# EAGLE library part AS3935 (library SparkFun-Sensors)
AS3935 Franklin Lightning Sensor The AS3935 is a programmable fully integrated Lightning Sensor IC that detects the presence and approach of potentially hazardous lightning activity in the vicinity and provides an estimation on the distance to the head of the storm. The embedded lightning algorithm checks the incoming signal pattern to reject the potential man-made disturbers.The AS3935 can also provide information on the noise level and inform the external unit (e.g. microcontroller) in case of high noise conditions, with the noise floor generator and noise floor evaluation blocks.
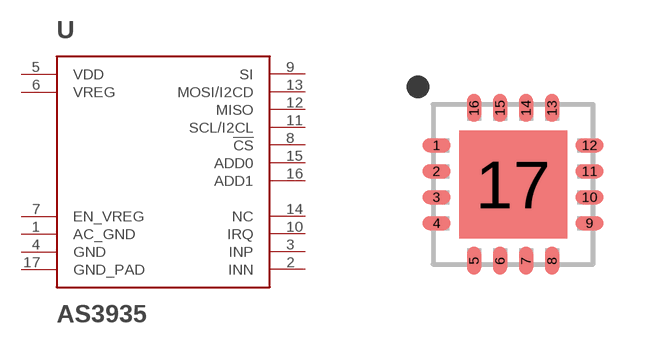
[diagram p51: symbol with the pads of 16LD_MLPQ; footprint 16LD_MLPQ]

Designator prefix U

## AS3935QFN (PROD_ID: IC-11333; VALUE: AS3935)  [16LD_MLPQ]
1  AC_GND  pwr
2  INN
3  INP
4  GND  pwr
5  VDD  pwr
6  VREG  pwr
7  EN_VREG
8  !CS  in
9  SI  in
10  IRQ
11  SCL/I2CL  in
12  MISO  out
13  MOSI/I2CD  in
14  NC  nc
15  ADD0  in
16  ADD1  in
17  GND_PAD  pwr

## Footprint 16LD_MLPQ (pad centres in mm)
MLPQ-16 Dimensions 4mm x 4mm x .75mm 16 Pin Exposed ground pad underneath
smd 0.7 x 0.35: 1 -1.919,0.968; 2 -1.919,0.318; 3 -1.919,-0.332; 4 -1.919,-0.982; 9 1.908,-0.982; 10 1.908,-0.332; 11 1.908,0.318; 12 1.908,0.968
smd 0.35 x 0.7: 5 -0.982,-1.917; 6 -0.332,-1.917; 7 0.318,-1.917; 8 0.968,-1.917; 13 0.968,1.907; 14 0.318,1.907; 15 -0.332,1.907; 16 -0.982,1.907
smd 2.7 x 2.7: 17 -0.007,-0.007